# Altium schematic symbol library 638263122008.SchLib: 1 symbol
Pins are listed as number, name and electrical type; pins without a type are passive.

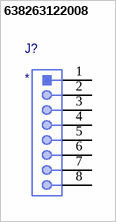
[diagram p0: symbol 638263122008]

## 638263122008
designator J?
pins: 1, 2, 3, 4, 5, 6, 7, 8